# Altium footprint library Vref.PcbLib: 6 footprints
Each footprint in its own frame and in the unit in brackets; x right, y up, seen from the top. Pads: shape width x height; smd on the part's side, far side on the other; paste and mask are expansions set on the pad; w line width, h text height; cw(c..) or ccw(c..) is an arc to the next point about the centre after c.
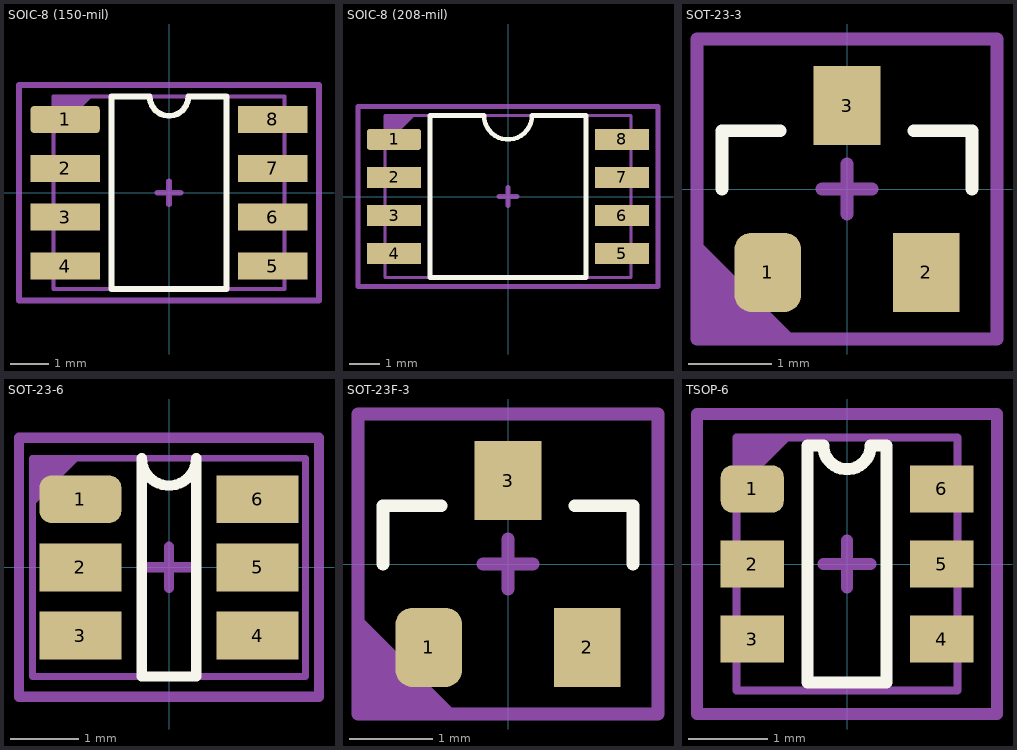
[diagram p0: the footprints below, top view; thin cyan lines are the x and y axes]

## SOIC-8 (150-mil) [mm]
pads (8):
  rrect25% 1.8x0.7 smd: 1(-2.7,1.905)
  rect 1.8x0.7 smd: 2(-2.7,0.635) 3(-2.7,-0.635) 4(-2.7,-1.905) 5(2.7,-1.905) 6(2.7,-0.635) 7(2.7,0.635) 8(2.7,1.905)
Top Overlay:
  lines w0.153: -1.5,-2.5 1.5,-2.5 1.5,2.5 0.5,2.5 cw(c0,2.5) -0.5,2.5 -1.5,2.5 -1.5,-2.5
Top Assembly:
  region: -3,2.5 -3,1.5 -2,2.5
  lines w0.1: -3,-2.5 -3,2.5 3,2.5 3,-2.5 -3,-2.5
  text "'.Designator'" at -4.532,-0.333 h0.8
Top Courtyard:
  lines w0.153: -0.3,0 0.3,0 ; 0,-0.3 0,0.3 ; -3.9,-2.8 3.9,-2.8 3.9,2.8 -3.9,2.8 -3.9,-2.8
3D body "so8-3.step": height 1.7, standoff 0, extent -3,-2.45 3,2.45

## SOIC-8 (208-mil) [mm]
pads (8):
  rrect25% 1.8x0.7 smd: 1(-3.8,1.905)
  rect 1.8x0.7 smd: 2(-3.8,0.635) 3(-3.8,-0.635) 4(-3.8,-1.905) 5(3.8,-1.905) 6(3.8,-0.635) 7(3.8,0.635) 8(3.8,1.905)
Top Overlay:
  lines w0.153: -2.6,-2.7 2.6,-2.7 2.6,2.7 0.8,2.7 cw(c0,2.7) -0.8,2.7 -2.6,2.7 -2.6,-2.7
Top Assembly:
  region: -4.1,2.7 -4.1,1.7 -3.1,2.7
  lines w0.1: -4.1,-2.7 4.1,-2.7 4.1,2.7 -4.1,2.7 -4.1,-2.7
  text "'.Designator'" at -4.532,-0.333 h0.8
Top Courtyard:
  lines w0.153: -0.3,0 0.3,0 ; 0,-0.3 0,0.3 ; -5,-3 -5,3 5,3 5,-3 -5,-3
3D body "User Library-SOIC-8-208.STEP": height 2.15, standoff 0, extent -4.1,-2.7 4.1,2.7

## SOT-23-3 [mm]
pads (3):
  rrect50% 0.8x0.95 smd: 1(-0.95,-1)
  rect 0.8x0.95 smd: 2(0.95,-1) 3(0,1)
Top Overlay:
  lines w0.153: -1.5,0 -1.5,0.7 -0.8,0.7 ; 0.8,0.7 1.5,0.7 1.5,0
Top Assembly:
  region: -1.8,-1.8 -1.8,-0.6 -0.6,-1.8
  lines w0.1: -1.8,-1.8 1.8,-1.8 1.8,1.8 -1.8,1.8 -1.8,-1.8
  text "'.Designator'" at -4.532,-0.333 h0.8
Top Courtyard:
  lines w0.153: -0.3,0 0.3,0 ; 0,-0.3 0,0.3 ; -1.8,-1.8 1.8,-1.8 1.8,1.8 -1.8,1.8 -1.8,-1.8
3D body "CircuitWorks-SOT-23.STEP": height 1.05, standoff -0.05, extent -1.5,-1.25 1.5,1.25

## SOT-23-6 [mm]
pads (6):
  rrect50% 1.2x0.7 smd: 1(-1.3,1)
  rect 1.2x0.7 smd: 2(-1.3,0) 3(-1.3,-1) 4(1.3,-1) 5(1.3,0) 6(1.3,1)
Top Overlay:
  lines w0.153: -0.4,-1.6 0.4,-1.6 0.4,1.6 cw(c0,1.6) -0.4,1.6 -0.4,-1.6
Top Assembly:
  region: -2,1.6 -1.3,1.6 -2,0.9
  lines w0.1: -2,-1.6 -2,1.6 2,1.6 2,-1.6 -2,-1.6
  text "'.Designator'" at -4.532,-0.333 h0.8
Top Courtyard:
  lines w0.153: -0.3,0 0.3,0 ; 0,-0.3 0,0.3 ; -2.2,-1.9 2.2,-1.9 2.2,1.9 -2.2,1.9 -2.2,-1.9
3D body "6-TSOP.step": height 1.11, standoff 0.01, extent -1.412,-1.55 1.412,1.55

## SOT-23F-3 [mm]
pads (3):
  rrect50% 0.8x0.95 smd: 1(-0.95,-1)
  rect 0.8x0.95 smd: 2(0.95,-1) 3(0,1)
Top Overlay:
  lines w0.153: -1.5,0 -1.5,0.7 -0.8,0.7 ; 0.8,0.7 1.5,0.7 1.5,0
Top Assembly:
  region: -1.8,-1.8 -1.8,-0.6 -0.6,-1.8
  lines w0.1: -1.8,-1.8 1.8,-1.8 1.8,1.8 -1.8,1.8 -1.8,-1.8
  text "'.Designator'" at -4.532,-0.333 h0.8
Top Courtyard:
  lines w0.153: -0.3,0 0.3,0 ; 0,-0.3 0,0.3 ; -1.8,-1.8 1.8,-1.8 1.8,1.8 -1.8,1.8 -1.8,-1.8
3D body "User Library-SOT23F-1.STEP": height 0.91, standoff 0, extent -1.45,-1.2 1.45,1.2

## TSOP-6 [mm]
height 1.1
pads (6):
  rrect50% 0.8x0.6 smd: 1(-1.2,0.95)
  rect 0.8x0.6 smd: 2(-1.2,0) 3(-1.2,-0.95) 4(1.2,-0.95) 5(1.2,0) 6(1.2,0.95)
Top Overlay:
  lines w0.153: -0.5,-1.5 0.5,-1.5 0.5,1.5 0.3,1.5 cw(c0,1.5) -0.3,1.5 -0.5,1.5 -0.5,-1.5
Top Assembly:
  region: -1.4,1.6 -0.7,1.6 -1.4,0.9
  lines w0.1: -1.4,-1.6 1.4,-1.6 1.4,1.6 -1.4,1.6 -1.4,-1.6
  text "'.Designator'" at -4.532,-0.333 h0.8
Top Courtyard:
  lines w0.153: -0.3,0 0.3,0 ; 0,-0.3 0,0.3 ; -1.9,-1.9 -1.9,1.9 1.9,1.9 1.9,-1.9 -1.9,-1.9
3D body "6-TSOP.step": height 1.11, standoff 0.01, extent -1.412,-1.55 1.412,1.55